# Altium schematic symbol library LEDs.SchLib: 9 symbols
Pins are listed as number, name and electrical type; pins without a type are passive.

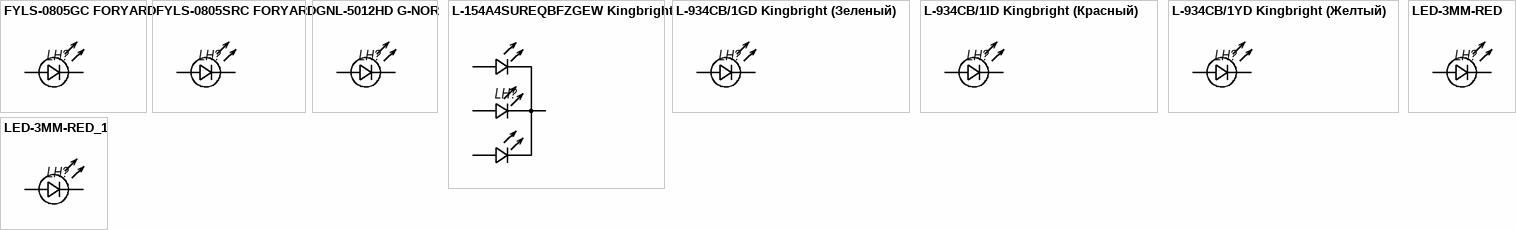
[diagram p0: symbols FYLS-0805GC FORYARD to LED-3MM-RED_1]

## FYLS-0805GC FORYARD
designator LH?  (value not drawn)
Светодиод 0805 Зеленый
footprint LED0805-GREEN
pins: 1, 2

## FYLS-0805SRC FORYARD
designator LH?  (value not drawn)
Светодиод 0805 Красный
footprint LED0805-RED
pins: 1, 2

## GNL-5012HD G-NOR
designator LH?  (value not drawn)
Светодиод красный d=5мм
footprint LED-5MM-RED
pins: 1 C, 2 A

## L-154A4SUREQBFZGEW Kingbright
designator LH?  (value not drawn)
footprint RGB-5MM
pins: 1, 2, 3, 4

## L-934CB/1GD Kingbright (Зеленый)
designator LH?  (value not drawn)
footprint L-934CB/1GD Kingbright
pins: 1, 2

## L-934CB/1ID Kingbright (Красный)
designator LH?  (value not drawn)
footprint L-934CB/1ID Kingbright
pins: 1, 2

## L-934CB/1YD Kingbright (Желтый)
designator LH?  (value not drawn)
footprint L-934CB/1YD Kingbright
pins: 1, 2

## LED-3MM-RED
designator LH?  (value not drawn)
footprint LED-3MM
pins: 1, 2

## LED-3MM-RED_1
designator LH?  (value not drawn)
footprint LED-3MM
pins: 1, 2